# Altium schematic symbol library MCP2551-E_P (1).SchLib: 1 symbol
Pins are listed as number, name and electrical type; pins without a type are passive.

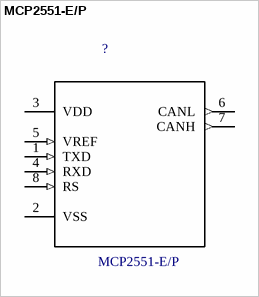
[diagram p0: symbol MCP2551-E/P]

## MCP2551-E/P
designator ?
IC TRANSCEIVER CAN HI-SPD 8-DIP; MF: Microchip; Package: DIP-8 Microchip; MP: MCP2551-E/P; Availability: Good; Price: 1.03 USD; Value: *
footprint DIP254P762X432-8
pins: 1 TXD (in), 2 VSS, 3 VDD (power), 4 RXD (in), 5 VREF (in), 6 CANL (out), 7 CANH (out), 8 RS (in)